# EAGLE library part SIMCARD (library SIM900D)
SIM card socket PCB layout
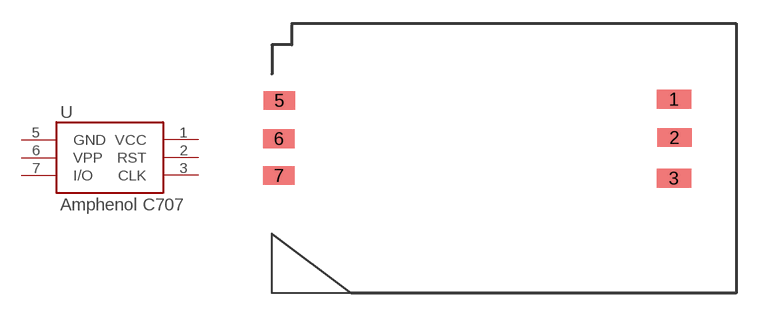
[diagram p2: symbol with the pads of SIMCARD; footprint SIMCARD]

Designator prefix -

## SIMCARD  [SIMCARD]
1  VCC
2  RST
3  CLK
5  GND
6  VPP
7  I/O

## Footprint SIMCARD (pad centres in mm)
smd 2.2 x 1.2: 1 10.48,3.51; 2 10.52,1.06; 3 10.48,-1.54
smd 2 x 1.2: 5 -14.77,3.43; 6 -14.79,0.99; 7 -14.79,-1.37